# Altium schematic symbol library Schlib1.SchLib: 1 symbol
Pins are listed as number, name and electrical type; pins without a type are passive.

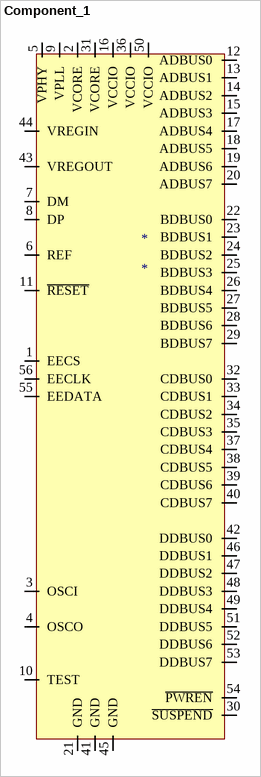
[diagram p0: symbol Component_1]

## Component_1
designator *
footprint QFN50P800X800X100-56N (QFN, 56-Leads, Body 8,1x8,1mm (max), Pitch 0,50mm, IPC Medium Density)
pins: 1 EECS, 2 VCORE, 3 OSCI, 4 OSCO, 5 VPHY, 6 REF, 7 DM, 8 DP, 9 VPLL, 10 TEST, 11 ~{RESET}, 12 ADBUS0, 13 ADBUS1, 14 ADBUS2, 15 ADBUS3, 16 VCCIO, 17 ADBUS4, 18 ADBUS5, 19 ADBUS6, 20 ADBUS7, 21 GND, 22 BDBUS0, 23 BDBUS1, 24 BDBUS2, 25 BDBUS3, 26 BDBUS4, 27 BDBUS5, 28 BDBUS6, 29 BDBUS7, 30 ~{SUSPEND}, 31 VCORE, 32 CDBUS0, 33 CDBUS1, 34 CDBUS2, 35 CDBUS3, 36 VCCIO, 37 CDBUS4, 38 CDBUS5, 39 CDBUS6, 40 CDBUS7, 41 GND, 42 DDBUS0, 43 VREGOUT, 44 VREGIN, 45 GND, 46 DDBUS1, 47 DDBUS2, 48 DDBUS3, 49 DDBUS4, 50 VCCIO, 51 DDBUS5, 52 DDBUS6, 53 DDBUS7, 54 ~{PWREN}, 55 EEDATA, 56 EECLK